# Altium footprint library CAP 16V.PcbLib: 1 footprints
Each footprint in its own frame and in the unit in brackets; x right, y up, seen from the top. Pads: shape width x height; smd on the part's side, far side on the other; paste and mask are expansions set on the pad; w line width, h text height; cw(c..) or ccw(c..) is an arc to the next point about the centre after c.
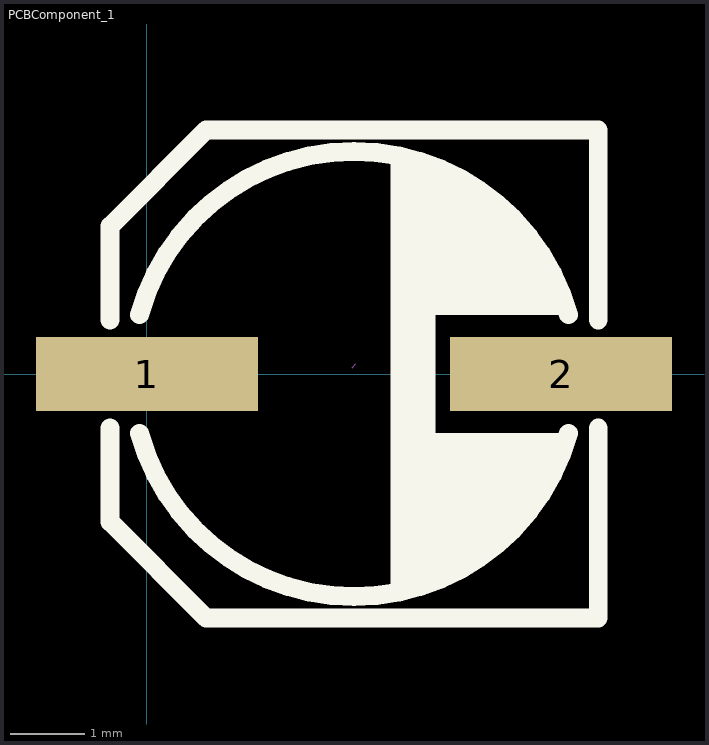
[diagram p0: the footprint, top view; thin cyan lines are the x and y axes]

## PCBComponent_1 [mm]
pads (2):
  rect 3x1 smd: 1(0,0) 2(5.6,0)
Top Overlay:
  region: 3.3,-3 3.3,2.9 3.3,3 3.3,2.9 3.9,2.8 4.4,2.6 4.7,2.3 5,2.1 5.3,1.8 5.5,1.4 5.7,0.8 3.9,0.8 3.9,-0.8 5.7,-0.8 5.6,-1 5.5,-1.4 5.2,-1.7 5,-2.1 4.6,-2.4 4.2,-2.6 3.8,-2.8 3.3,-3
  lines w0.254: -0.497,-0.732 -0.497,-1.999 0.804,-3.299 6.102,-3.299 6.102,-0.732 ; -0.497,0.732 -0.497,1.999 0.804,3.299 6.102,3.299 6.102,0.732 ; -0.1,-0.8 ccw(c2.8,0) 5.7,-0.8 ; -0.1,0.8 cw(c2.8,0) 5.7,0.8
Mechanical 15:
  lines w0.003: 2.775,0.088 2.825,0.138
3D body "User Library-CAPSMD6_3x3_9.STEP": height 4.04, standoff 0.13, extent -0.686,-3.3 6.314,3.3